# EAGLE library part MIC2537-2BM (library TBKMicrel)
Quad Power Distribution Switch
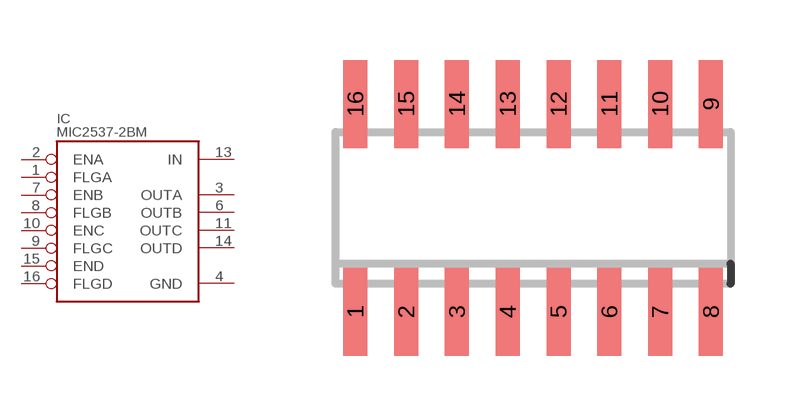
[diagram p15: symbol with the pads of SO16; footprint SO16]

Designator prefix IC

## MIC2537-2BM  [SO16]
1  FLGA  oc
2  ENA  in
3  OUTA  out
4  GND  pwr
6  OUTB  out
7  ENB  in
8  FLGB  oc
9  FLGC  oc
10  ENC  in
11  OUTC  out
13  IN  in
14  OUTD  out
15  END  in
16  FLGD  oc

## Footprint SO16 (pad centres in mm)
SMALL OUTLINE INTEGRATED CIRCUIT body 3.9 mm/JEDEC MS-012AC
smd 0.6 x 2.2: 1 -4.445,-2.6; 2 -3.175,-2.6; 3 -1.905,-2.6; 4 -0.635,-2.6; 5 0.635,-2.6; 6 1.905,-2.6; 7 3.175,-2.6; 8 4.445,-2.6; 9 4.445,2.6; 10 3.175,2.6; 11 1.905,2.6; 12 0.635,2.6; 13 -0.635,2.6; 14 -1.905,2.6; 15 -3.175,2.6; 16 -4.445,2.6